# Altium schematic symbol library CHS.SchLib: 2 symbols
Pins are listed as number, name and electrical type; pins without a type are passive.

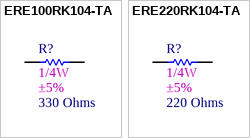
[diagram p0: symbols ERE100RK104-TA to ERE220RK104-TA]

## ERE100RK104-TA
designator R?, comment value 330 Ohms  1st Auxiliary Field: 1/4W  2nd Auxiliary Field: ±5%  (hidden comment: RES 330 OHM 1/4W 5% AXIAL)
Manufacturer Part Number: CF14JT330R; Manufacturer: Stackpole Electronics Inc; Internal Part Number: ERE330RK104-TA; Vendor Part Number: CF14JT330RCT-ND; Component Height (mm): 59.2mm; 3rd Auxiliary Field: ROHS3 Compliant; Vendor Name: Digi-Key; Temp Co: -55°C ~ 155°C; Part Type: RES 330 OHM 1/4W 5% AXIAL; 4th Auxiliary Field: *
footprint RESADV350W070L320D180
pins: 1, 2

## ERE220RK104-TA
designator R?, comment value 220 Ohms  1st Auxiliary Field: 1/4W  2nd Auxiliary Field: ±5%  (hidden comment: RES 220 OHM 1/4W 5% AXIAL)
Manufacturer Part Number: CF14JT220R; Manufacturer: Stackpole Electronics Inc; Internal Part Number: ERE220RK104-TA; Vendor Part Number: CF14JT220RCT-ND; Component Height (mm): 59.2mm; 3rd Auxiliary Field: ROHS3 Compliant; Vendor Name: Digi-Key; Temp Co: -55°C ~ 155°C; Part Type: RES 220 OHM 1/4W 5% AXIAL; 4th Auxiliary Field: *
footprint RESADV350W070L320D180
pins: 1, 2